# Altium integrated library L7805.IntLib: 1 symbol
Pins are listed as number, name and electrical type; pins without a type are passive.

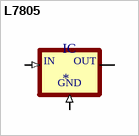
[diagram p0: symbol L7805]

## L7805
designator IC
Linear Voltage Regulator IC 1 Output 1.5A D2PAK; MP: L7805; MF: STMicroelectronics; Package: TO-263-3 Inchange Semiconductor; Availability: Unavailable; Value: *; SnapEDA_Link: https://www.snapeda.com/parts/L7805/STMicroelectronics/view-part/563125/?ref=snap; Price: None
footprint 78XXS
pins: GND (in), IN (in), OUT